# Altium schematic symbol library EL-sense_Voltage_Regulators.SchLib: 13 symbols
Pins are listed as number, name and electrical type; pins without a type are passive.

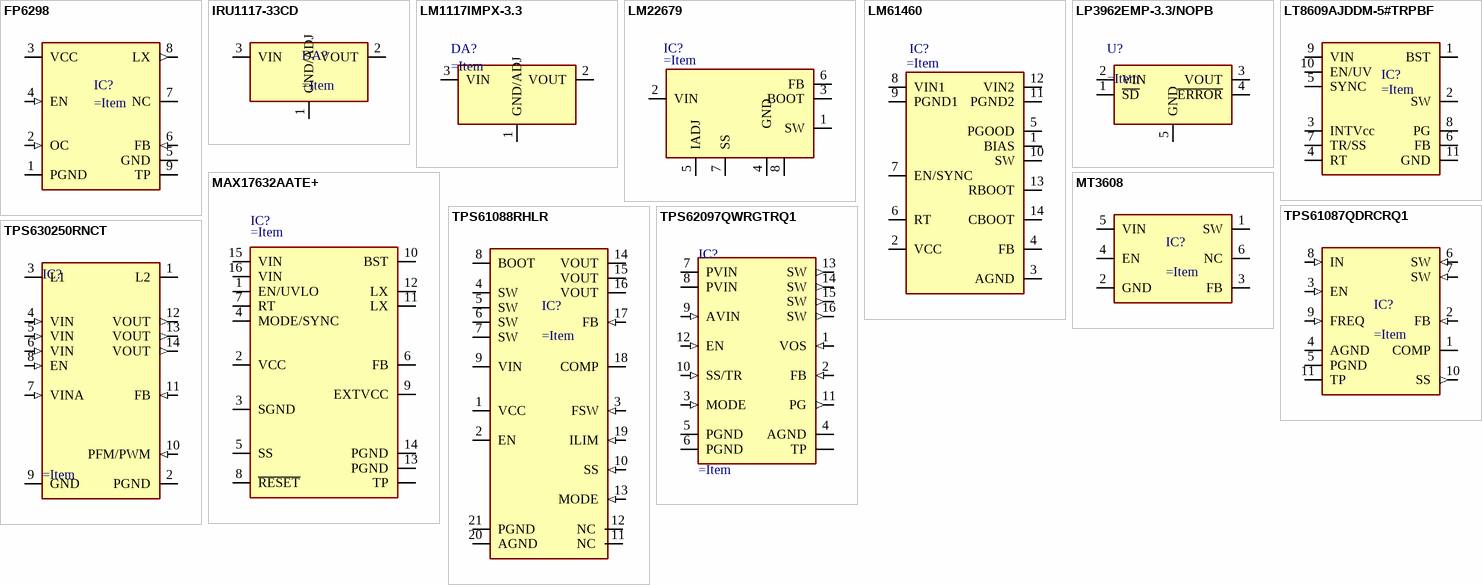
[diagram p0: symbols FP6298 to TPS630250RNCT]

## FP6298
designator IC?
pins: 1 PGND (power), 2 OC (in), 3 VCC (power), 4 EN (in), 5 GND (power), 6 FB (in), 7 NC, 8 LX (out), 9 TP (power)

## IRU1117-33CD
designator DA?
pins: 1 GND/ADJ (power), 2 VOUT (power), 3 VIN (power)

## LM1117IMPX-3.3
designator DA?
pins: 1 GND/ADJ (power), 2 VOUT (power), 3 VIN (power)

## LM22679
designator IC?
pins: 1 SW, 2 VIN, 3 BOOT, 4       GND, 5 IADJ, 6 FB, 7 SS, 8 GND

## LM61460
designator IC?
pins: 1 BIAS, 2 VCC, 3 AGND, 4 FB, 5 PGOOD, 6 RT, 7 EN/SYNC, 8 VIN1, 9 PGND1, 10 SW, 11 PGND2, 12 VIN2, 13 RBOOT, 14 CBOOT

## LP3962EMP-3.3/NOPB
designator U?
pins: 1 ~{SD}, 2 VIN (power), 3 VOUT (power), 4 ~{ERROR}, 5 GND (power)

## LT8609AJDDM-5#TRPBF
designator IC?
pins: 1 BST, 2 SW, 3 INTVcc, 4 RT, 5 SYNC, 6 FB, 7 TR/SS, 8 PG, 9 VIN, 10 EN/UV, 11 GND

## MAX17632AATE+
designator IC?
pins: 1 EN/UVLO, 2 VCC (power), 3 SGND, 4 MODE/SYNC, 5 SS, 6 FB, 7 RT, 8 ~{RESET}, 9 EXTVCC, 10 BST, 11 LX, 12 LX, 13 PGND, 14 PGND, 15 VIN, 16 VIN, TP

## MT3608
designator IC?
pins: 1 SW, 2 GND, 3 FB, 4 EN, 5 VIN, 6 NC

## TPS61087QDRCRQ1
designator IC?
pins: 1 COMP (io), 2 FB (in), 3 EN (in), 4 AGND (power), 5 PGND (power), 6 SW (in), 7 SW (in), 8 IN (in), 9 FREQ (in), 10 SS (out), 11 TP (power)

## TPS61088RHLR
designator IC?
pins: 1 VCC, 2 EN, 3 FSW (in), 4 SW, 5 SW, 6 SW, 7 SW, 8 BOOT, 9 VIN, 10 SS (in), 11 NC, 12 NC, 13 MODE (in), 14 VOUT, 15 VOUT, 16 VOUT, 17 FB (in), 18 COMP, 19 ILIM (in), 20 AGND, 21 PGND

## TPS62097QWRGTRQ1
designator IC?
pins: 1 VOS (in), 2 FB (in), 3 MODE (in), 4 AGND (power), 5 PGND (power), 6 PGND (power), 7 PVIN (power), 8 PVIN (power), 9 AVIN (in), 10 SS/TR (in), 11 PG (out), 12 EN (in), 13 SW (out), 14 SW (out), 15 SW (out), 16 SW (out), TP (power)

## TPS630250RNCT
designator IC?
pins: 1 L2, 2 PGND (power), 3 L1, 4 VIN (in), 5 VIN (in), 6 VIN (in), 7 VINA (in), 8 EN (in), 9 GND (power), 10 PFM/PWM (in), 11 FB (in), 12 VOUT (out), 13 VOUT (out), 14 VOUT (out)